# EAGLE library part MCP2003 (library Microchip)
Digi-Key Part Number MCP2003-E/SN-ND Manufacturer Part Number MCP2003-E/SN This device provides a bidirectional, half-duplex communication physical interface to automotive and industrial LIN systems to meet the LIN bus specification Revision 2.1 and SAE J2602. The device is short circuit and overtemperature protected by internal circuitry. The device has been specifically designed to operate in the automotive operating environment and will survive all specified transient conditions while meeting all of the stringent quiescent current requirements.
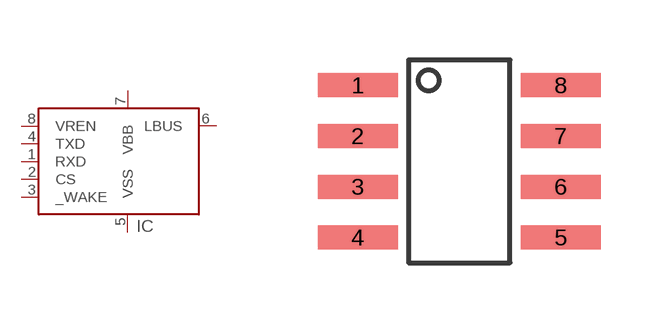
[diagram p40: symbol with the pads of SOIC8-SN; footprint SOIC8-SN]

Designator prefix IC

## MCP2003-SOIC8  [SOIC8-SN]
1  RXD
2  CS
3  _WAKE
4  TXD
5  VSS
6  LBUS
7  VBB
8  VREN

## Footprint SOIC8-SN (pad centres in mm)
8-Lead Plastic Small Outline (SN) - Narrow, 3.90 mm body (SOIC)
smd 2 x 0.6: 1 -2.54,1.905; 2 -2.54,0.635; 3 -2.54,-0.635; 4 -2.54,-1.905; 5 2.54,-1.905; 6 2.54,-0.635; 7 2.54,0.635; 8 2.54,1.905